# Altium schematic symbol library HV5622PG-G.SchLib: 1 symbol
Pins are listed as number, name and electrical type; pins without a type are passive.

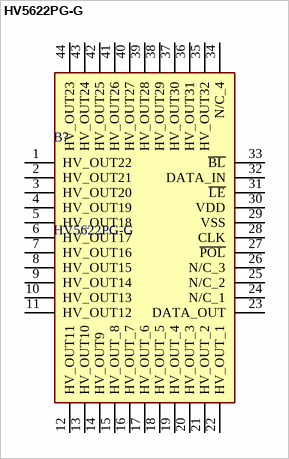
[diagram p0: symbol HV5622PG-G]

## HV5622PG-G
designator B?
Serial to Parallel Logic Converters 220V 32Ch Open D Out; Manufacturer_Name: Microchip; Geometry.Height: 2.35mm; Mouser Part Number: 689-HV5622PG-G; Mouser Price/Stock: https://www.mouser.co.uk/ProductDetail/Microchip-Technology/HV5622PG-G?qs=jjdktuRV%2Fgg6x1DCsLKbaw%3D%3D; Manufacturer_Part_Number: HV5622PG-G; Datasheet Link: https://componentsearchengine.com/Datasheets/1/HV5622PG-G.pdf
footprint QFP80P1390X1390X235-44N
pins: 1 HV_OUT22, 2 HV_OUT21, 3 HV_OUT20, 4 HV_OUT19, 5 HV_OUT18, 6 HV_OUT17, 7 HV_OUT16, 8 HV_OUT15, 9 HV_OUT14, 10 HV_OUT13, 11 HV_OUT12, 12 HV_OUT11, 13 HV_OUT10, 14 HV_OUT9, 15 HV_OUT_8, 16 HV_OUT_7, 17 HV_OUT_6, 18 HV_OUT_5, 19 HV_OUT_4, 20 HV_OUT_3, 21 HV_OUT_2, 22 HV_OUT_1, 23 DATA_OUT, 24 N/C_1, 25 N/C_2, 26 N/C_3, 27 ~{POL}, 28 CLK, 29 VSS, 30 VDD, 31 ~{LE}, 32 DATA_IN, 33 ~{BL}, 34 N/C_4, 35 HV_OUT32, 36 HV_OUT31, 37 HV_OUT30, 38 HV_OUT29, 39 HV_OUT28, 40 HV_OUT27, 41 HV_OUT26, 42 HV_OUT25, 43 HV_OUT24, 44 HV_OUT23